# EAGLE library part L4978D013TR (library Camera_Board_Parts_09_30_2020)
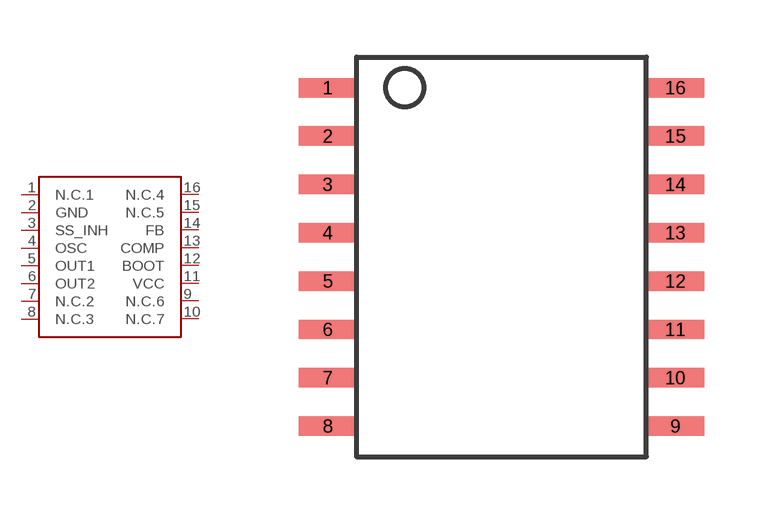
[diagram p2: symbol with the pads of L4978D013TR; footprint L4978D013TR]

Designator prefix -

## L4978D013TR  [L4978D013TR]
1  N.C.1
2  GND
3  SS_INH
4  OSC
5  OUT1
6  OUT2
7  N.C.2
8  N.C.3
9  N.C.6
10  N.C.7
11  VCC
12  BOOT
13  COMP
14  FB
15  N.C.5
16  N.C.4

## Footprint L4978D013TR (pad centres in mm)
smd 1.525 x 0.51: 1 -4.562,4.445; 2 -4.562,3.175; 3 -4.562,1.905; 4 -4.562,0.635; 5 -4.562,-0.635; 6 -4.562,-1.905; 7 -4.562,-3.175; 8 -4.562,-4.445; 9 4.562,-4.445; 10 4.562,-3.175; 11 4.562,-1.905; 12 4.562,-0.635; 13 4.562,0.635; 14 4.562,1.905; 15 4.562,3.175; 16 4.562,4.445